# Altium schematic symbol library ISL21090.SchLib: 1 symbol
Pins are listed as number, name and electrical type; pins without a type are passive.

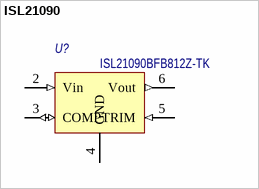
[diagram p0: symbol ISL21090]

## ISL21090
designator U?, comment ISL21090BFB812Z-TK
Ultra Low Noise, Precision Voltage Reference; Потребление, Вт: 0,005; Назначение: Ultra Low Noise, Precision Voltage Reference; ComponentLink1Description: DataSheet; ComponentLink1URL: https://www.infinite-electronic.ru/datasheet/a9-ISL21090BFB825Z-TK.pdf; Наименование: ISL21090BFB812Z-TK
footprint SOIC-8
pins: 2 Vin (in), 3 COMP (io), 4 GND (power), 5 TRIM (in), 6 Vout (out)